# Altium integrated library NanoEEG_v2_MCU.IntLib: 41 symbols
Pins are listed as number, name and electrical type; pins without a type are passive.

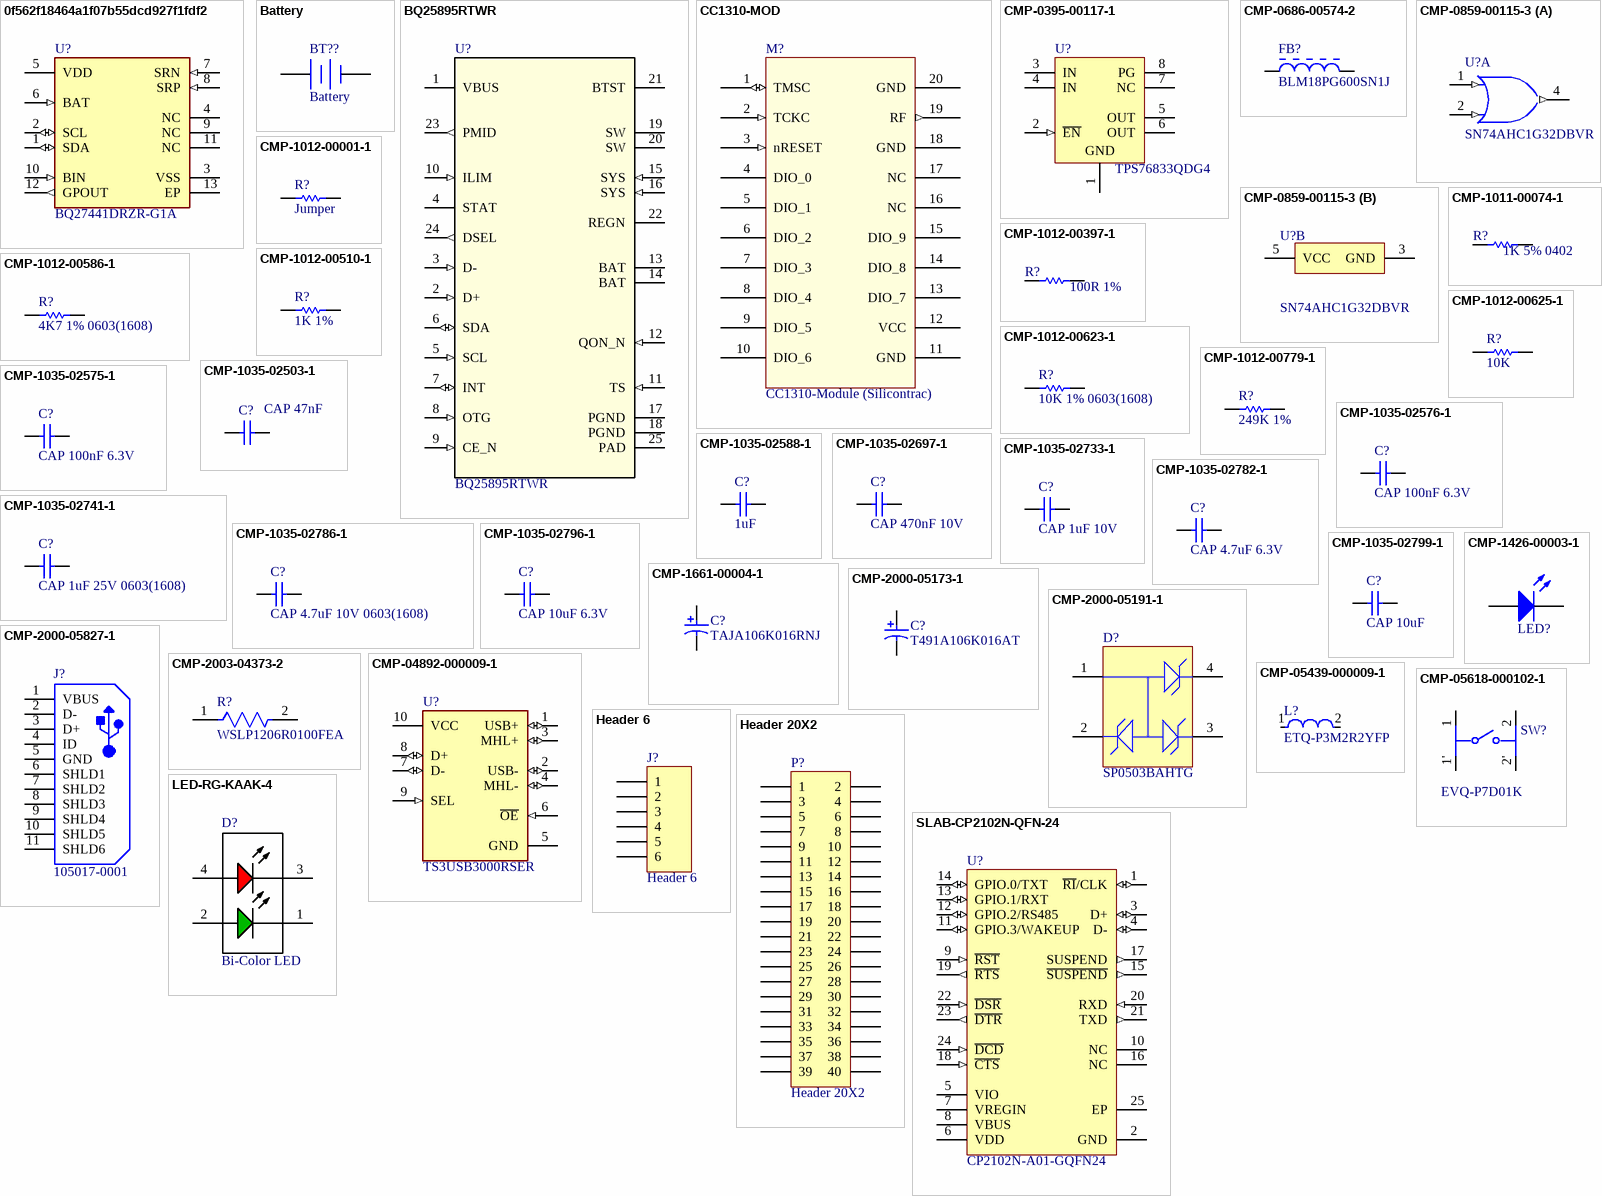
[diagram p0: symbols 0f562f18464a1f07b55dcd927f1fdf2 to SLAB-CP2102N-QFN-24]

## 0f562f18464a1f07b55dcd927f1fdf2
designator U?, comment BQ27441DRZR-G1A
IC BATT FUEL GAUGE LI-ION 12SON; Manufacturer: Texas Instruments; Number Of Cells: 1; Nominal Supply Current: 93uA; Max Supply Voltage: 4.5V; Standoff Height: 0mm; Min Supply Voltage: 2.45V; Output Voltage: 1.8V; Temperature Range High: +85°C; Temperature: -40°C to +85°C; Device Class L2: Power Management ICs; Device Class L1: Integrated Circuits (ICs); Lead Free: Yes; Height: 1mm; Package: DRZ0012A; Number Of Outputs: 1; ComponentLink2URL: http://www.ti.com/lit/gpn/bq27441-g1; Ambient Temperature Range High: +85°C; Category: IC; Manufacturer Part Number: BQ27441DRZR-G1A; Device Class L3: Battery Management; RoHS: TRUE; Octopart: https://octopart.com/bq27441drzr-g1a-texas+instruments-30555829; Ambient Temperature Range Low: -40°C; Automotive: No; Mouser Description: System-Side Impedance Track? Battery Fuel (Gas) Gauge 12-SON -40 to 85; Digikey Description: IC BATT FUEL GAUGE LI-ION 12SON; Temperature Range Low: -40°C; ComponentLink2Description: Datasheet
footprint FP-DRZ0012A-MFG_M
pins: 1 SDA (io), 2 SCL (io), 3 VSS (power), 4 NC, 5 VDD (power), 6 BAT (in), 7 SRN (in), 8 SRP (in), 9 NC, 10 BIN (in), 11 NC, 12 GPOUT (out), 13 EP (power)

## Battery
designator BT??
Multicell Battery; Published: 24-Mar-1999; LatestRevisionDate: 17-Jul-2002; LatestRevisionNote: Re-released for DXP Platform.; PackageReference: BAT-2; Publisher: Altium Limited; PackageDescription: Battery; 2 Leads
footprint PH2.0-WS-2P (长：8mm，宽：7.6mm，高：5.5mm)
pins: 1 +, 2 -

## BQ25895RTWR
designator U?
Imported; Alternate_PartNumber: BQ25895RTWT; Manufacturer: Texas Instruments; CompType: IC; PIN_COUNT: 25; Application_BuildNumber: *; PartNumber: BQ25895RTWR; PackageReference: RTW0024H; MountType: SMT; RefDes: RefDes; TYPE: TYPE; Value: Value
footprint RTW0024H
pins: 1 VBUS (power), 2 D+ (in), 3 D- (in), 4 STAT (oc), 5 SCL (in), 6 SDA (io), 7 INT (io), 8 OTG (in), 9 CE_N (in), 10 ILIM (in), 11 TS (in), 12 QON_N (in), 13 BAT (power), 14 BAT (power), 15 SYS (in), 16 SYS (in), 17 PGND (power), 18 PGND (power), 19 SW (power), 20 SW (power), 21 BTST (power), 22 REGN (power), 23 PMID (out), 24 DSEL (out), 25 PAD (power)

## CC1310-MOD
designator M?, comment CC1310-Module (Silicontrac)
footprint CC1310ZTR4-GC
pins: 1 TMSC (io), 2 TCKC (in), 3 nRESET (in), 4 DIO_0, 5 DIO_1, 6 DIO_2, 7 DIO_3, 8 DIO_4, 9 DIO_5, 10 DIO_6, 11 GND (power), 12 VCC (power), 13 DIO_7, 14 DIO_8, 15 DIO_9, 16 NC, 17 NC, 18 GND (power), 19 RF (out), 20 GND (power)

## CMP-0395-00117-1
designator U?, comment TPS76833QDG4
Single Output Fast Transient Response LDO, 1 A, Fixed 3.3 V Output, 2.7 to 10 V Input, with Low IQ, 8-pin SOIC (D), -40 to 125 degC, Green (RoHS & no Sb/Br); Manufacturer: Texas Instruments; Vin(Min)(V): 2.7; Fixed Output Options(V): 3.3; Iq(Typ)(mA): 0.08; Vdo(Typ)(mV): 350; Power Good: TRUE; Iout(Max)(A): 1; Accuracy(%): 2; SubFamily: Single Channel LDO; Vin(Max)(V): 10; PackageVersion: 4040047-3/M; PackageReference: D8; PartNumber: TPS76833QDG4; Code_JEDEC: MS-012; DatasheetVersion: SLVS211L; Vout Adj(Min)(V): 3.3; ComponentLink2Description: Datasheet; PackageDescription: 8-Pin Plastic Small Outline, Body 4.9 x 3.9 mm, Pitch 1.27 mm; ComponentLink3URL: http://www.ti.com/litv/pdf/msoi002j; Vout Adj(Max)(V): 3.3; ComponentLink1Description: Manufacturer URL; Mounting Technology: Surface Mount; ComponentLink3Description: Package Specification; ComponentLink2URL: http://www.ti.com/general/docs/lit/getliterature.tsp?genericPartNumber=TPS76833&fileType=pdf; ComponentLink1URL: http://www.ti.com/; Eco-Plan: Green (RoHS & no Sb/Br); Manufacturer Part Number: TPS76833QDG4
footprint TI-D8_M (SOIC, 8-Leads, Body 4.9x3.9mm, Pitch 1.27mm, IPC Low Density)
footprint TI-D8_L (SOIC, 8-Leads, Body 4.9x3.9mm, Pitch 1.27mm, IPC High Density)
footprint TI-D8_N (SOIC, 8-Leads, Body 4.9x3.9mm, Pitch 1.27mm, IPC Medium Density)
pins: 1 GND (power) "Ground", 2 ~{EN} (in) "Negative polarity enable (E\N\) input", 3 IN (power) "Input voltage", 4 IN (power) "Input voltage", 5 OUT (power) "Regulated output voltage", 6 OUT (power) "Regulated output voltage", 7 NC "No internal connection", 8 PG (hiz) "Open-drain power-good (PG) output."

## CMP-0686-00574-2
designator FB?, comment BLM18PG600SN1J
Chip Ferrite Bead for Power Lines, 60 Ohm, 500 mA, -55 to 125 degC, 1.6 x 0.8 x 0.95 mm SMD, Tape and Reel; Manufacturer: Murata; Impedance (at 100 MHz): 60 Ohm Typ.; Rated Current: 500 mA; DC Resistance: 0.10 Ohm Max.; ComponentLink2URL: http://www.murata.com/products/catalog/pdf/c31e.pdf; ComponentLink1Description: Manufacturer URL; Operating Temperature Range: -55 to 125 degC; DatasheetVersion: 08/2013; PackageDescription: 2-Pin Chip, Body 1.6 x 0.8 mm; PackageReference: BLM18_H950-2; ComponentLink2Description: Datasheet; PartNumber: BLM18PG600SN1J; Mounting Technology: Surface Mount; ComponentLink3URL: http://www.murata.com/products/catalog/pdf/c31e.pdf; ComponentLink3Description: Package Specification; Packing: Tape and Reel; ComponentLink1URL: http://www.murata.com/; Manufacturer Part Number: BLM18PG600SN1J
footprint MURA-BLM18PG_KG-CHIP-2_V2 (Chip Ferrite Bead, 2-Leads, Body 1.6x0.8mm, Height 0.95mm, Reflow, 0.5 to 1.5A Rated Current)
footprint MURA-BLM18PG_KG-CHIP-2_V1 (Chip Ferrite Bead, 2-Leads, Body 1.6x0.8mm, Height 0.95mm, Flow, 0.5 to 1.5A Rated Current)
pins: 1, 2

## CMP-0859-00115-3
designator U?, comment SN74AHC1G32DBVR
Single 2-Input Positive-OR Gate, DBV0005A, LARGE T&R; Manufacturer: Texas Instruments; Rating: Catalog; Sub-Family: OR Gate; 3-State Output: No; Logic: True; VCC(Min)(V): 2; Voltage(Nom)(V): 3.3,5; F @ Nom Voltage(Max)(Mhz): 75; VCC(Max)(V): 5.5; Output Type: CMOS; Output Drive (IOL/IOH)(Max)(mA): 50/-50; tpd @ Nom Voltage(Max)(ns): 13,8.5; Technology Family: AHC; Gate Type: OR; Bits(#): 1; ICC @ Nom Voltage(Max)(mA): 0.01; DatasheetVersion: SCLS317O; Generic Part Number: SN74AHC1G32; Input Type: CMOS; PackageReference: DBV0005A; Schmitt Trigger: No; Operating Temperature Range(C): -40 to 125; Manufacturer Part Number: SN74AHC1G32DBVR
footprint DBV0005A_L (SOT23, 5-Leads, Body 3.05x1.75mm, Pitch 0.95mm, IPC High Density)
footprint DBV0005A_N (SOT23, 5-Leads, Body 3.05x1.75mm, Pitch 0.95mm, IPC Medium Density)
footprint DBV0005A_M (SOT23, 5-Leads, Body 3.05x1.75mm, Pitch 0.95mm, IPC Low Density)
part A pins: 1 A (in) "Input A", 2 B (in) "Input B", 4 Y (out) "Output Y"
part B pins: 3 GND (power) "Ground Pin", 5 VCC (power) "Power Pin"

## CMP-1011-00074-1
designator R?, comment 1K 5% 0402
1K 0.063W 5% 0402 (1005 Metric)  SMD; Manufacturer: Vishay Dale; Manufacturer Part Number: CRCW04021K00JNED; Manufacturer Part Number: CRCW04021K00JNTE; Manufacturer Part Number: CRCW04021K00JNEE; Manufacturer Part Number: CRCW04021K00JNTD; Manufacturer: Bourns; Manufacturer Part Number: CR0402-JW-102GLF; Manufacturer: Panasonic; Manufacturer Part Number: ERJ-2GEJ102X; Manufacturer: Yageo; Manufacturer Part Number: RC0402JR-071KL; Value: 1000.00 Ohm; Case-EIA: 0402; Case-Metric: 1005; Tolerance: 5 %; Power: 0.063 W; Technology: SMT
footprint RESC0402(1005)_L (Chip Resistor, Body 1.0x0.5mm, IPC High Density)
footprint RESC0402(1005)_N (Chip Resistor, Body 1.0x0.5mm, IPC Medium Density)
footprint RESC0402(1005)_M (Chip Resistor, Body 1.0x0.5mm, IPC Low Density)
pins: 1, 2
1 alternate drawing of the same symbol

## CMP-1012-00001-1
designator R?, comment Jumper
Jumper 0603 (1608 Metric); Manufacturer: Vishay Dale; Manufacturer Part Number: CRCW06030000Z0EC; Manufacturer: Yageo; Manufacturer Part Number: RC0603JR-070RL; Manufacturer: Vishay; Manufacturer Part Number: CRCW0603-0000Z0EA; Manufacturer Part Number: CRCW06030000Z0TA; Manufacturer: Bourns; Manufacturer Part Number: CR0603-J/-000ELF; Manufacturer Part Number: CRCW06030000Z0EB; Manufacturer: Panasonic; Manufacturer Part Number: ERJ-3GEY0R00V; Case-Metric: 1608; Value: 0.00 Ohm; Power: None; Case-EIA: 0603; Technology: SMT; Tolerance: None
footprint RESC0603(1608)_N (Chip Resistor, Body 1.6x0.8mm, IPC Medium Density)
footprint RESC0603(1608)_L (Chip Resistor, Body 1.6x0.8mm, IPC High Density)
footprint RESC0603(1608)_M (Chip Resistor, Body 1.6x0.8mm, IPC Low Density)
pins: 1, 2
1 alternate drawing of the same symbol

## CMP-1012-00397-1
designator R?, comment 100R 1%
100R 0.1W 1% 0603 (1608 Metric)  SMD; Manufacturer: Vishay Dale; Manufacturer Part Number: CRCW0603100RFKTB; Manufacturer Part Number: CRCW0603100RFKTA; Manufacturer: Bourns; Manufacturer Part Number: CR0603-FX-1000ELF; Manufacturer Part Number: CRCW0603100RFKTC; Manufacturer Part Number: CRCW0603100RFKEC; Manufacturer Part Number: CRCW0603100RFKEA; Manufacturer Part Number: CRCW0603100RFKEB; Manufacturer: Panasonic; Manufacturer Part Number: ERJ3EKF1000V; Manufacturer: Yageo; Manufacturer Part Number: RC0603FR-07100RL; Value: 100.00 Ohm; Case-EIA: 0603; Case-Metric: 1608; Technology: SMT; Tolerance: 1 %; Power: 0.1 W
footprint RESC0603(1608)_M (Chip Resistor, Body 1.6x0.8mm, IPC Low Density)
footprint RESC0603(1608)_L (Chip Resistor, Body 1.6x0.8mm, IPC High Density)
footprint RESC0603(1608)_N (Chip Resistor, Body 1.6x0.8mm, IPC Medium Density)
pins: 1, 2
1 alternate drawing of the same symbol

## CMP-1012-00510-1
designator R?, comment 1K 1%
1K 0.1W 1% 0603 (1608 Metric)  SMD; Manufacturer: Vishay Dale; Manufacturer Part Number: CRCW06031K00FKEB; Manufacturer Part Number: CRCW06031K00FKTA; Manufacturer: Yageo; Manufacturer Part Number: RC0603FR-071KL; Manufacturer Part Number: CRCW06031K00FKEC; Manufacturer Part Number: CRCW06031K00FKTB; Manufacturer: Bourns; Manufacturer Part Number: CR0603-FX-1001ELF; Manufacturer: Panasonic; Manufacturer Part Number: ERJ3EKF1001V; Manufacturer Part Number: CRCW06031K00FKEA; Case-Metric: 1608; Case-EIA: 0603; Value: 1000.00 Ohm; Technology: SMT; Tolerance: 1 %; Power: 0.1 W
footprint RESC0603(1608)_M (Chip Resistor, Body 1.6x0.8mm, IPC Low Density)
footprint RESC0603(1608)_N (Chip Resistor, Body 1.6x0.8mm, IPC Medium Density)
footprint RESC0603(1608)_L (Chip Resistor, Body 1.6x0.8mm, IPC High Density)
pins: 1, 2
1 alternate drawing of the same symbol

## CMP-1012-00586-1
designator R?, comment 4K7 1% 0603(1608)
4K7 0.1W 1% 0603 (1608 Metric)  SMD; Manufacturer: Panasonic; Manufacturer Part Number: ERJ-3EKF4701V; Manufacturer: Vishay Dale; Manufacturer Part Number: CRCW06034K70FKTB; Manufacturer: Bourns; Manufacturer Part Number: CR0603-FX-4701ELF; Manufacturer: Yageo; Manufacturer Part Number: RC0603FR-074K7L; Manufacturer Part Number: CRCW06034K70FKTC; Manufacturer Part Number: CRCW06034K70FKEC; Manufacturer: Vishay; Manufacturer Part Number: CRCW06034K70FKEA; Manufacturer Part Number: CRCW06034K70FKTA; Manufacturer Part Number: CRCW06034K70FKEB; Case-EIA: 0603; Case-Metric: 1608; Value: 4700.00 Ohm; Power: 0.1 W; Tolerance: 1 %; Technology: SMT
footprint RESC0603(1608)_N (Chip Resistor, Body 1.6x0.8mm, IPC Medium Density)
footprint RESC0603(1608)_L (Chip Resistor, Body 1.6x0.8mm, IPC High Density)
footprint RESC0603(1608)_M (Chip Resistor, Body 1.6x0.8mm, IPC Low Density)
pins: 1, 2
1 alternate drawing of the same symbol

## CMP-1012-00623-1
designator R?, comment 10K 1% 0603(1608)
10K 0.1W 1% 0603 (1608 Metric)  SMD; Manufacturer: Panasonic; Manufacturer Part Number: ERJ-3EKF1002V; Manufacturer: Vishay Dale; Manufacturer Part Number: CRCW060310K0FKTC; Manufacturer: Vishay; Manufacturer Part Number: CRCW060310K0FKEA; Manufacturer Part Number: CRCW060310K0FKTA; Manufacturer Part Number: CRCW060310K0FKEC; Manufacturer: Yageo; Manufacturer Part Number: RC0603FR-0710KL; Manufacturer Part Number: CRCW060310K0FKEB; Manufacturer: Bourns; Manufacturer Part Number: CR0603-FX-1002ELF; Manufacturer Part Number: CRCW060310K0FKTB; Value: 10000.00 Ohm; Case-EIA: 0603; Case-Metric: 1608; Power: 0.1 W; Tolerance: 1 %; Technology: SMT
footprint RESC0603(1608)_N (Chip Resistor, Body 1.6x0.8mm, IPC Medium Density)
footprint RESC0603(1608)_L (Chip Resistor, Body 1.6x0.8mm, IPC High Density)
footprint RESC0603(1608)_M (Chip Resistor, Body 1.6x0.8mm, IPC Low Density)
pins: 1, 2
1 alternate drawing of the same symbol

## CMP-1012-00625-1
designator R?, comment 10K
10K5 0.1W 1% 0603 (1608 Metric)  SMD; Manufacturer: Bourns; Manufacturer Part Number: CR0603-FX-1052ELF; Manufacturer: Vishay; Manufacturer Part Number: CRCW0603-10K5FKEA; Manufacturer: Yageo; Manufacturer Part Number: RC0603FR-0710K5L; Manufacturer: Vishay Dale; Manufacturer Part Number: CRCW060310K5FKEB; Manufacturer Part Number: CRCW060310K5FKTA; Manufacturer: Panasonic; Manufacturer Part Number: ERJ-3EKF1052V; Case-EIA: 0603; Case-Metric: 1608; Value: 10500.00 Ohm; Power: 0.1 W; Technology: SMT; Tolerance: 1 %
footprint RESC0603(1608)_N (Chip Resistor, Body 1.6x0.8mm, IPC Medium Density)
footprint RESC0603(1608)_L (Chip Resistor, Body 1.6x0.8mm, IPC High Density)
footprint RESC0603(1608)_M (Chip Resistor, Body 1.6x0.8mm, IPC Low Density)
pins: 1, 2
1 alternate drawing of the same symbol

## CMP-1012-00779-1
designator R?, comment 249K 1%
249K 0.1W 1% 0603 (1608 Metric)  SMD; Manufacturer: Vishay Dale; Manufacturer Part Number: CRCW0603249KFKTA; Manufacturer: Bourns; Manufacturer Part Number: CR0603-FX-2493ELF; Manufacturer Part Number: CRCW0603249KFKEB; Manufacturer: Yageo; Manufacturer Part Number: RC0603FR-07249KL; Manufacturer: Panasonic; Manufacturer Part Number: ERJ-3EKF2493V; Manufacturer Part Number: CRCW0603249KFKTC; Manufacturer: Vishay; Manufacturer Part Number: CRCW0603249KFKEA; Manufacturer Part Number: CRCW0603249KFKEC; Case-Metric: 1608; Case-EIA: 0603; Value: 249000.00 Ohm; Technology: SMT; Power: 0.1 W; Tolerance: 1 %
footprint RESC0603(1608)_L (Chip Resistor, Body 1.6x0.8mm, IPC High Density)
footprint RESC0603(1608)_N (Chip Resistor, Body 1.6x0.8mm, IPC Medium Density)
footprint RESC0603(1608)_M (Chip Resistor, Body 1.6x0.8mm, IPC Low Density)
pins: 1, 2
1 alternate drawing of the same symbol

## CMP-1035-02503-1
designator C?, comment CAP 47nF
CAP 47nF 16V ±10% 0603 (1608 Metric) Thickness 1mm SMD; Manufacturer: KEMET; Manufacturer Part Number: C0603C473K4RAC; Manufacturer Part Number: C0603C473K4RACTU; Manufacturer: Vishay Vitramon; Manufacturer Part Number: VJ0603Y473KXJAC; Manufacturer Part Number: VJ0603Y473KXJPW1BC; Manufacturer: TDK; Manufacturer Part Number: C1608X7R1C473K; Manufacturer: Kyocera AVX; Manufacturer Part Number: 0603YC473KAT2A; Manufacturer Part Number: 0603YC473KAT4A; Manufacturer Part Number: C0603C473K4RACTM; Manufacturer Part Number: VJ0603Y473KXJCW1BC; Manufacturer: Yageo; Manufacturer Part Number: CC0603KRX7R7BB473; Manufacturer Part Number: VJ0603Y473KXJAP; Tolerance: Â±10%; Case-EIA: 0603; Case-Metric: 1608; Technology: SMT; Rated Voltage: 16 V; Max Thickness: 1 mm; Value: 47nF
footprint CAPC0603(1608)100_L (Chip Capacitor, Body 1.6x0.8mm, Height 1.0mm, IPC High Density)
footprint CAPC0603(1608)100_M (Chip Capacitor, Body 1.6x0.8mm, Height 1.0mm, IPC Low Density)
footprint CAPC0603(1608)100_N (Chip Capacitor, Body 1.6x0.8mm, Height 1.0mm, IPC Medium Density)
pins: 1, 2
1 alternate drawing of the same symbol

## CMP-1035-02575-1
designator C?, comment CAP 100nF 6.3V
CAP 100nF 6.3V ±5% 0603 (1608 Metric) Thickness 1mm SMD; Manufacturer: KEMET; Manufacturer Part Number: C0603C104J9RACTM; Manufacturer Part Number: C0603C104J9RAC; Manufacturer Part Number: C0603C104J9RACTU; Tolerance: Â±5%; Case-Metric: 1608; Case-EIA: 0603; Technology: SMT; Rated Voltage: 6.3 V; Max Thickness: 1 mm; Value: 100nF
footprint CAPC0603(1608)100_M (Chip Capacitor, Body 1.6x0.8mm, Height 1.0mm, IPC Low Density)
footprint CAPC0603(1608)100_L (Chip Capacitor, Body 1.6x0.8mm, Height 1.0mm, IPC High Density)
footprint CAPC0603(1608)100_N (Chip Capacitor, Body 1.6x0.8mm, Height 1.0mm, IPC Medium Density)
pins: 1, 2
1 alternate drawing of the same symbol

## CMP-1035-02576-1
designator C?, comment CAP 100nF 6.3V
CAP 100nF 6.3V ±10% 0603 (1608 Metric) Thickness 1mm SMD; Manufacturer: KEMET; Manufacturer Part Number: C0603C104K9RAC; Manufacturer Part Number: C0603C104K9RACTU; Manufacturer Part Number: C0603C104K9RACTM; Tolerance: Â±10%; Case-Metric: 1608; Case-EIA: 0603; Max Thickness: 1 mm; Value: 100nF; Rated Voltage: 6.3 V; Technology: SMT
footprint CAPC0603(1608)100_M (Chip Capacitor, Body 1.6x0.8mm, Height 1.0mm, IPC Low Density)
footprint CAPC0603(1608)100_N (Chip Capacitor, Body 1.6x0.8mm, Height 1.0mm, IPC Medium Density)
footprint CAPC0603(1608)100_L (Chip Capacitor, Body 1.6x0.8mm, Height 1.0mm, IPC High Density)
pins: 1, 2
1 alternate drawing of the same symbol

## CMP-1035-02588-1
designator C?, comment 1uF
CAP 100nF 25V ±10% 0603 (1608 Metric) Thickness 1mm SMD; Manufacturer: Vishay Vitramon; Manufacturer Part Number: VJ0603Y104KNXAO; Manufacturer: Yageo; Manufacturer Part Number: CC0603KPX7R8BB104; Manufacturer Part Number: VJ0603Y104KXXAP; Manufacturer: Murata; Manufacturer Part Number: GRM188R71E104KA01D; Manufacturer: TDK; Manufacturer Part Number: C1608X7R1E104K; Manufacturer: Kyocera AVX; Manufacturer Part Number: 06033C104KAT4A; Manufacturer Part Number: VJ0603Y104KXXCW1BC; Manufacturer Part Number: 06033C104KAT2A; Manufacturer Part Number: CC0603KRX7R8BB104; Manufacturer: KEMET; Manufacturer Part Number: C0603C104K3RACTU; Manufacturer Part Number: 06033C104KAT7A; Manufacturer Part Number: 06033D104KAT2A; Manufacturer Part Number: C0603C104K3RACTM; Manufacturer Part Number: 06033D104KAT4A; Manufacturer: Vishay; Manufacturer Part Number: VJ0603Y104KXXPW1BC; Manufacturer Part Number: C0603C104K3RAC; Manufacturer Part Number: VJ0603Y104KXXAC; Case-Metric: 1608; Case-EIA: 0603; Tolerance: Â±10%; Max Thickness: 1 mm; Technology: SMT; Rated Voltage: 25 V; Value: 100nF
footprint CAPC0603(1608)100_M (Chip Capacitor, Body 1.6x0.8mm, Height 1.0mm, IPC Low Density)
footprint CAPC0603(1608)100_L (Chip Capacitor, Body 1.6x0.8mm, Height 1.0mm, IPC High Density)
footprint CAPC0603(1608)100_N (Chip Capacitor, Body 1.6x0.8mm, Height 1.0mm, IPC Medium Density)
pins: 1, 2
1 alternate drawing of the same symbol

## CMP-1035-02697-1
designator C?, comment CAP 470nF 10V
CAP 470nF 10V ±20% 0603 (1608 Metric) Thickness 1mm SMD; Manufacturer: KEMET; Manufacturer Part Number: C0603C474M8RACTU; Manufacturer: Vishay Vitramon; Manufacturer Part Number: VJ0603V474MXQPW1BC; Manufacturer Part Number: VJ0603V474MXQCW1BC; Manufacturer Part Number: C0603C474M8PAC; Manufacturer Part Number: C0603C474M8PACTU; Manufacturer Part Number: C0603C474M8RAC; Manufacturer: TDK; Manufacturer Part Number: C1608X5R1A474M; Manufacturer Part Number: C1608X7R1A474M; Case-EIA: 0603; Case-Metric: 1608; Tolerance: Â±20%; Max Thickness: 1 mm; Rated Voltage: 10 V; Technology: SMT; Value: 470nF
footprint CAPC0603(1608)100_M (Chip Capacitor, Body 1.6x0.8mm, Height 1.0mm, IPC Low Density)
footprint CAPC0603(1608)100_L (Chip Capacitor, Body 1.6x0.8mm, Height 1.0mm, IPC High Density)
footprint CAPC0603(1608)100_N (Chip Capacitor, Body 1.6x0.8mm, Height 1.0mm, IPC Medium Density)
pins: 1, 2
1 alternate drawing of the same symbol

## CMP-1035-02733-1
designator C?, comment CAP 1uF 10V
CAP 1uF 10V ±10% 0603 (1608 Metric) Thickness 1mm SMD; Manufacturer: KEMET; Manufacturer Part Number: C0603C105K8RACTU; Manufacturer: Murata; Manufacturer Part Number: GRM188R71A105KA61D; Manufacturer: Vishay; Manufacturer Part Number: VJ0603Y105KXQPW1BC; Manufacturer: Kyocera AVX; Manufacturer Part Number: 0603ZD105KAT2A; Manufacturer Part Number: C0603C105K8PAC; Manufacturer Part Number: VJ0603Y105KXQCW1BC; Manufacturer Part Number: 0603ZC105KAT2A; Manufacturer Part Number: VJ0603G105KXQPW1BC; Manufacturer Part Number: C0603C105K8PACTU; Manufacturer Part Number: 0603ZD105KAT4A; Manufacturer Part Number: 0603ZC105KAT4A; Manufacturer: TDK; Manufacturer Part Number: C1608X5R1A105K; Manufacturer Part Number: C0603C105K8RAC; Manufacturer Part Number: VJ0603G105KXQCW1BC; Manufacturer: Yageo; Manufacturer Part Number: CC0603KRX5R6BB105; Manufacturer Part Number: C1608X7R1A105K; Tolerance: Â±10%; Case-EIA: 0603; Case-Metric: 1608; Rated Voltage: 10 V; Max Thickness: 1 mm; Value: 1uF; Technology: SMT
footprint CAPC0603(1608)100_M (Chip Capacitor, Body 1.6x0.8mm, Height 1.0mm, IPC Low Density)
footprint CAPC0603(1608)100_N (Chip Capacitor, Body 1.6x0.8mm, Height 1.0mm, IPC Medium Density)
footprint CAPC0603(1608)100_L (Chip Capacitor, Body 1.6x0.8mm, Height 1.0mm, IPC High Density)
pins: 1, 2
1 alternate drawing of the same symbol

## CMP-1035-02741-1
designator C?, comment CAP 1uF 25V 0603(1608)
CAP 1uF 25V ±20% 0603 (1608 Metric) Thickness 1mm SMD; Manufacturer: TDK; Manufacturer Part Number: C1608X7R1E105M; Manufacturer Part Number: C1608X6S1E105M; Manufacturer Part Number: C1608X5R1E105M; Manufacturer: KEMET; Manufacturer Part Number: C0603C105M3PACTU; Manufacturer Part Number: C0603C105M3PAC; Tolerance: Â±20%; Case-EIA: 0603; Case-Metric: 1608; Max Thickness: 1 mm; Technology: SMT; Rated Voltage: 25 V; Value: 1uF
footprint CAPC0603(1608)100_M (Chip Capacitor, Body 1.6x0.8mm, Height 1.0mm, IPC Low Density)
footprint CAPC0603(1608)100_N (Chip Capacitor, Body 1.6x0.8mm, Height 1.0mm, IPC Medium Density)
footprint CAPC0603(1608)100_L (Chip Capacitor, Body 1.6x0.8mm, Height 1.0mm, IPC High Density)
pins: 1, 2
1 alternate drawing of the same symbol

## CMP-1035-02782-1
designator C?, comment CAP 4.7uF 6.3V
CAP 4.7uF 6.3V ±20% 0603 (1608 Metric) Thickness 1mm SMD; Manufacturer: Yageo; Manufacturer Part Number: CC0603MRX5R5BB475; Manufacturer: KEMET; Manufacturer Part Number: C0603C475M9PAC; Manufacturer Part Number: C0603C475M9PACTU; Manufacturer: TDK; Manufacturer Part Number: C1608X6S0J475M; Manufacturer: Kyocera AVX; Manufacturer Part Number: 06036D475MAT4A; Manufacturer Part Number: C1608X5R0J475M/0.50; Manufacturer Part Number: C1608X5R0J475M/0.80; Manufacturer Part Number: 06036D475MAT2A; Case-EIA: 0603; Tolerance: Â±20%; Case-Metric: 1608; Technology: SMT; Rated Voltage: 6.3 V; Max Thickness: 1 mm; Value: 4.7uF
footprint CAPC0603(1608)100_M (Chip Capacitor, Body 1.6x0.8mm, Height 1.0mm, IPC Low Density)
footprint CAPC0603(1608)100_L (Chip Capacitor, Body 1.6x0.8mm, Height 1.0mm, IPC High Density)
footprint CAPC0603(1608)100_N (Chip Capacitor, Body 1.6x0.8mm, Height 1.0mm, IPC Medium Density)
pins: 1, 2
1 alternate drawing of the same symbol

## CMP-1035-02786-1
designator C?, comment CAP 4.7uF 10V 0603(1608)
CAP 4.7uF 10V ±20% 0603 (1608 Metric) Thickness 0.55mm SMD; Manufacturer: TDK; Manufacturer Part Number: C1608X5R1A475M/0.50; Tolerance: Â±20%; Case-EIA: 0603; Case-Metric: 1608; Technology: SMT; Max Thickness: 0.55 mm; Rated Voltage: 10 V; Value: 4.7uF
footprint CAPC0603(1608)55_M (Chip Capacitor, Body 1.6x0.8mm, Height 0.55mm, IPC Low Density)
footprint CAPC0603(1608)55_N (Chip Capacitor, Body 1.6x0.8mm, Height 0.55mm, IPC Medium Density)
footprint CAPC0603(1608)55_L (Chip Capacitor, Body 1.6x0.8mm, Height 0.55mm, IPC High Density)
pins: 1, 2
1 alternate drawing of the same symbol

## CMP-1035-02796-1
designator C?, comment CAP 10uF 6.3V
CAP 10uF 6.3V ±10% 0603 (1608 Metric) Thickness 1mm SMD; Manufacturer: TDK; Manufacturer Part Number: C1608X5R0J106K; Manufacturer: KEMET; Manufacturer Part Number: C0603C106K9PAC; Manufacturer Part Number: C0603C106K9PACTU; Manufacturer: Kyocera AVX; Manufacturer Part Number: 06036D106KAT2A; Manufacturer: Yageo; Manufacturer Part Number: CC0603KRX5R5BB106; Case-EIA: 0603; Tolerance: Â±10%; Case-Metric: 1608; Value: 10uF; Technology: SMT; Rated Voltage: 6.3 V; Max Thickness: 1 mm
footprint CAPC0603(1608)100_M (Chip Capacitor, Body 1.6x0.8mm, Height 1.0mm, IPC Low Density)
footprint CAPC0603(1608)100_N (Chip Capacitor, Body 1.6x0.8mm, Height 1.0mm, IPC Medium Density)
footprint CAPC0603(1608)100_L (Chip Capacitor, Body 1.6x0.8mm, Height 1.0mm, IPC High Density)
pins: 1, 2
1 alternate drawing of the same symbol

## CMP-1035-02799-1
designator C?, comment CAP 10uF
CAP 10uF 10V ±10% 0603 (1608 Metric) Thickness 1mm SMD; Manufacturer: TDK; Manufacturer Part Number: C1608X5R1A106K; Tolerance: Â±10%; Case-Metric: 1608; Case-EIA: 0603; Max Thickness: 1 mm; Technology: SMT; Rated Voltage: 10 V; Value: 10uF
footprint CAPC0603(1608)100_N (Chip Capacitor, Body 1.6x0.8mm, Height 1.0mm, IPC Medium Density)
footprint CAPC0603(1608)100_M (Chip Capacitor, Body 1.6x0.8mm, Height 1.0mm, IPC Low Density)
footprint CAPC0603(1608)100_L (Chip Capacitor, Body 1.6x0.8mm, Height 1.0mm, IPC High Density)
pins: 1, 2
1 alternate drawing of the same symbol

## CMP-1426-00003-1
designator LED?, comment 150060BS75000  (value not drawn)
SMD mono-color Chip LED, WL-SMCW, Blue; Manufacturer: Wuerth Elektronik; Manufacturer: Wurth Electronics; Color: Blue; ComponentLink2Description: Datasheet; ComponentLink2URL: http://katalog.we-online.com/led/datasheet/150060BS75000.pdf; ComponentLink1URL: http://www.we-online.com; PackageReference: 0603_A; PartNumber: 150060BS75000; ComponentLink1Description: Manufacturer URL; Manufacturer Part Number: 150060BS75000
footprint 0603_A (Chip LED, 2-Leads, Body 1.6x0.8mm, IPC Medium Density)
pins: 1 K, 2 A

## CMP-1661-00004-1
designator C?, comment TAJA106K016RNJ
Standard Tantalum, 10 uF, +/- 10%, 16 V, -55 to 125 degC, 2-Pin SMD (1206), RoHS, Tape and Reel; Manufacturer: Kyocera AVX; Frequency: 300 MHz; Vce Max: 500 mV; hFE Min: 60; Elements: 2; Case\Package: SOT-26; Max Power Dissipation: 300 mW; Min Operating Temperature: -55 degC; Width: 1.7 mm; ComponentLink2URL: http://datasheets.avx.com/TAJ.pdf; PackageDescription: 2-Pin Surface Mount Device, Body 3.2 x 1.65 mm; RoHSCompliant: true; ComponentLink2Description: Datasheet; Package Quantity: 3000; Max Operating Temperature: 150 degC; Length: 3.1 mm; Mount: Surface Mount; Packaging: Tape and Reel; ComponentLink1URL: http://www.avx.com/; ComponentLink1Description: Manufacturer URL; DatasheetVersion: Feb-16; ComponentLink3URL: http://www.avx.com/download/software/literature/AVX-Footprint-Library.pdf; ComponentLink3Description: Package Specification; Height: 1.3 mm; PackageReference: CAPMP3217X18-T; REACH SVHC: No SVHC; Pins: 6; Radiation Hardening: No; Manufacturer Part Number: TAJA106K016RNJ
footprint CAPMP3217X18-T_V (Molded Capacitor, 2-Leads, Body 3.40x1.8mm)
pins: 1, 2

## CMP-2000-05173-1
designator C?, comment T491A106K016AT
Capacitor, Tantalum, 10 uF, +/- 10%, 16 V, -55 to 125 degC, 2-Pin SMD (1206), RoHS, Tape and Reel; Manufacturer: Kemet; Insulation: NotRequired; Voltage: 16VDC; Capacitance: 10uF; Product Height (mm): 1.6mm; Polarity: Polar; Lead Spacing (nom): NotRequiredmm; Product Length (mm): 3.2mm; Case Style: Molded; DCL: 1.6uA; ESR: 7ohm; DF: 8%; Mounting Style: SurfaceMount; Manufacturer URL: http://www.kemet.com/; Datasheet Version: Apr-14; Package Description: 2-Pin Surface Mount Device, Body 3.2 x 1.6 mm; Operating Temp Range: -55Cto125C; Package Reference: 1206; Wire Form: NotRequired; Datasheet URL: http://www.farnell.com/datasheets/1824869.pdf; Tolerance (+ or -): 10%; Failure Rate: NotRequired; Length W/Weld: NotRequiredmm; Package / Case: 3216-18; Seated Plane Height: NotRequiredmm; Product Diameter (mm): NotRequiredmm; Construction: SMTChip; Seal: NotRequired; Case Code: A; Product Depth (mm): 1.6mm; Packaging: TapeandReel; Manufacturer: KEMET; Manufacturer Part Number: T491A106K016AT
footprint KEMT-A-3216-18-2_M (Molded TAN Capacitor, 2-Leads, Body 3.4x1.8mm, IPC Low Density)
footprint KEMT-A-3216-18-2_N (Molded TAN Capacitor, 2-Leads, Body 3.4x1.8mm, IPC Medium Density)
footprint KEMT-A-3216-18-2_L (Molded TAN Capacitor, 2-Leads, Body 3.4x1.8mm, IPC High Density)
pins: 1, 2

## CMP-2000-05191-1
designator D?, comment SP0503BAHTG
TVS Diode Array, 30 pF, 30 KV, -40 to 85 degC, 4-Pin SOT143, RoHS, Tape and Reel; Manufacturer: Littelfuse; Direction Type: Uni-Directional; Product Height (mm): 1.05mm; Leakage Current (Max): 0.1uA; Clamping Voltage (Max): 8V; Reverse Stand-off Voltage: 5.5(Min)V; Configuration: Triple; Working Voltage: 5.5V; Product Length (mm): 3.04mm; Working Voltage (Max): 5.5V(Min); Capacitance Value: 30pF; Rad Hardened: No; Number of Elements: 3; Product Depth (mm): 1.4mm; Operating Temperature Max Deg. C: 85C; Suppressor Type: TVS; Operating Temperature Min Deg. C: -40C; Operating Temp Range: -40Cto85C; Mounting: SurfaceMount; Package / Case: SOT-143; Datasheet Version: Dec-13; Package Type: SOT-143; Packaging: TapeandReel; Pin Count: 3+Tab; Operating Temperature Classification: Industrial; Datasheet URL: https://datasheet.ciiva.com/15143/getdatasheetpartid-116020-15143550.pdf; Manufacturer URL: http://www.littelfuse.com/; Leakage Current: 0.1uA; Mounting Style: SurfaceMount; Clamping Voltage: 8V; Polarity: Uni-Directional; Manufacturer Part Number: SP0503BAHTG
footprint LFUS-SOT143-4_V (SOT143, 4-Leads, Body 3.04x1.4mm, Pitch 1.90mm)
pins: 1, 2, 3, 4

## CMP-2000-05827-1
designator J?, comment 105017-0001
Micro-USB B Receptacle, Right Angle, Bottom Mount, Surface Mount, with Solder Tabs, -30 to 85 degC, 5-Pin USB, RoHS, Tape and Reel; Manufacturer: Molex; Featured Product: Micro-USBConnectorsUSBConnectors; Other Names: WM1399DKR; Package Version: Rev. F, 12/2012; Number of Contacts: 5; Connector Type: USB-microB; Catalog Drawings: 1050170001; 3D Model: 105017-0001.stp; Mating Products: WM17145-ND-CABLEMICROUSBBTOSTDA1.0MWM17147-ND-CABLEMICROUSBBTOSTDA2.0MWM17146-ND-CABLEMICROUSBBTOSTDA1.5M; PCN Assembly/Origin: ResinSupplier21/Oct/2015; Voltage - Max: 30V; Online Catalog: Molex-MicroUSB; Manufacturer URL: http://www.molex.com/; Package Description: 5-Leads USB, Micro B, Body 7.5 x 5 mm, Pitch 0.65 mm; Datasheet URL: http://www.molex.com/elqNow/elqRedir.htm?ref=http://www.molex.com/webdocs/datasheets/pdf/en-us/1050170001_IO_CONNECTORS.pdf; Ingress Protection: -; Datasheet Version: 03/2016; Mounting Type: BoardCutout,SurfaceMount,RightAngle; Circuits: 5; Standard Package: 1; Package Reference: MICRO-B; Package URL: http://www.molex.com/pdm_docs/sd/1050170001_sd.pdf; Category: Connectors,Interconnects; Series: -; RoHS Information: 1050170001CertofCompliance; Features: Shielded,SolderRetention; Family: USB,DVI,HDMIConnectors; Specifications: -; Gender: Receptacle; Packaging: Digi-Reel®; Mounting Technology: SurfaceMount; Manufacturer Part Number: 1050170001
footprint USB-MICRO-B_V (USB, MICRO B, Body 7.491x4.695 mm, Pitch 0.65 mm)
pins: 1 VBUS, 2 D-, 3 D+, 4 ID, 5 GND, 6 SHLD1, 7 SHLD2, 8 SHLD3, 9 SHLD4, 10 SHLD5, 11 SHLD6

## CMP-2003-04373-2
designator R?, comment WSLP1206R0100FEA
RES 0.01 OHM 1% 1W 1206; Manufacturer: Vishay Dale; Temperature Coefficient: 75ppm/°C; Resistance: 10mR; Features: Moisture Resistant; Case/Package: 1206; Military Standard: Not; Case Code (Imperial): 1206; Power Rating: 1W; Number of Terminations: 2; Lead Free: Lead Free; Number of Pins: 2; Min Operating Temperature: -65°C; Weight: 0.000571oz; Radiation Hardening: No; Series: WSLP; Length: 3.2mm; Termination: SMD/SMT; Mount: Surface Mount; Size Code: 1206; Height: 0.035inch; Case Code (Metric): 3216; Resistance Tolerance: 1%; Contact Plating: Tin; Width: 0.063inch; Construction: Rectangular; Packaging: Tape and Reel; Package Quantity: 1; RoHS Compliant: Yes; Depth: 1.6mm; Tolerance: 1%; Max Operating Temperature: 170°C; Max Power Dissipation: 1W; Resistor Type: Metal Strip; Manufacturer Part Number: WSLP1206R0100FEA
footprint FP-WSLP1206-FP_1_65x1_93x-MFG
footprint FP-WSLP1206-FP_1_65x1_93x-IPC_C
footprint FP-WSLP1206-FP_1_65x1_93x-IPC_B
footprint FP-WSLP1206-FP_1_65x1_93x-IPC_A
pins: 1, 2

## CMP-04892-000009-1
designator U?, comment TS3USB3000RSER
IC USB SW/MHL DPDT 10UQFN; Manufacturer: Texas Instruments; On State Resistance: 5.7Ω; Min Supply Voltage: 2.3V; Number Of Circuits: 2; -3Db Bandwith: 6.1GHz; Standoff Height: 0mm; Max Supply Voltage: 4.8V; Nominal Supply Current: 30uA; Temperature Range High: +85°C; Ambient Temperature Range High: +85°C; Package: UQFN10; Category: IC; Temperature: -40°C to +85°C; Device Class L2: Interface ICs; Height: 0.6mm; Lead Free: Yes; RoHS: TRUE; Ipc Land Pattern Name: QFN50P150X200X55-10; Digikey Description: IC USB SW/MHL DPDT 10UQFN; Octopart: https://octopart.com/ts3usb3000rser-texas+instruments-25746917; Automotive: No; Device Class L1: Integrated Circuits (ICs); Ambient Temperature Range Low: -40°C; Mouser Description: DPDT USB 2.0 High-Speed and Mobile High-Definition Link (MHL) (6.1GHz) Switch 10-UQFN -40 to 85; Temperature Range Low: -40°C; Device Class L3: Analog Switches; ComponentLink2URL: http://www.ti.com/lit/ds/symlink/ts3usb3000.pdf; Manufacturer Part Number: TS3USB3000RSER; ComponentLink2Description: Datasheet; Throw Configuration: DPDT; Interface: USB
footprint FP-TS3USB3000RSER-MFG
pins: 1 USB+ (io), 2 USB- (io), 3 MHL+ (io), 4 MHL- (io), 5 GND (power), 6 ~{OE} (in), 7 D- (io), 8 D+ (io), 9 SEL (in), 10 VCC (power)

## CMP-05439-000009-1
designator L?, comment ETQ-P3M2R2YFP
FIXED IND 2.2UH 5.8A 24.8 MOHM; Manufacturer: Panasonic; Manufacturer Part Number: ETQP3M2R2YFP; Tolerance: 20%; Automotive Grade: Grade 0; Standoff Height: 0.05mm; Series Resistance: 24.8mΩ; Core Material: Metal Composite; Test Frequency: 100kHz; Saturation Current: 10.9A; Rms Current: 4.8A; Shielding: true; Temperature Range Low: -40°C; Category: Ind; Temperature: -40°C to +150°C; Lead Free: Yes; Temperature Range High: +150°C; Height: 3mm; Manufacturer Part Number: ETQ-P3M2R2YFP; Value: 2.2uH; Device Class L3: Fixed Inductors; Automotive: Yes; Inductance: 2.2uH; Device Class L2: Inductors; ComponentLink2URL: https://industrial.panasonic.com/cdbs/www-data/pdf/AGL0000/AGL0000C59.pdf; ComponentLink2Description: Datasheet; Octopart: https://octopart.com/etqp3m2r2yfp-panasonic-65686337; Device Class L1: Passive Components; Digikey Description: FIXED IND 2.2UH 5.8A 24.8 MOHM; RoHS: TRUE; Package: PCC-M0530M
footprint FP-PCC-M0530M-MFG
pins: 1, 2

## CMP-05618-000102-1
designator SW?, comment EVQ-P7D01K
SWITCH TACTILE SPST-NO 0.05A 12V; Manufacturer: Panasonic; Max Current Rating: 50mA; Throw Configuration: SPST; Switch Function: Off-Mom; Contact Resistance: 500mR; Operating Force: 2.2N; Illumination Type: Non-Illuminated; Electrical Life: 100000Cycles; Actuator Color: Black; Actuator Length: 0.65mm; Switch Travel: 0.2mm; Min Operating Temperature: -20°C; Packaging: Tape and Reel; Orientation: Right Angle; Contact Current Rating: 50mA; Radiation Hardening: No; Length: 4.3mm; Current Rating: 50mA; Max Operating Temperature: 70°C; Mount: Surface Mount; Voltage Rating (DC): 12V; Max Voltage Rating (DC): 12V; Size: 2.9mm; Termination: J-Bend; Depth: 3.55mm; Series: EVQP7; Mechanical Life: 100000Cycles; Lead Free: Lead Free; REACH SVHC: No SVHC; Package Quantity: 1; Manufacturer Part Number: EVQ-P7D01K
footprint FP-EVQ-P7D01K-MFG
pins: 1, 1', 2, 2'

## Header 6
designator J?
Header, 6-Pin; LatestRevisionDate: 17-Jul-2002; LatestRevisionNote: Re-released for DXP Platform.; Publisher: Altium Limited
footprint HDR1X6 (Connector; Header; 6 Position)
signal-integrity model Connector
footprint PH2.0-WS-6P (长：16mm，宽：7.6mm，高：5.5mm)
footprint PH2.0-WI-6P (长：13.9mm，宽：6mm，高：4.7mm)
footprint GH-1.25-WS-6P (1.25mm SMT Male Horizontal Shrouded Header, 6p)
pins: 1, 2, 3, 4, 5, 6

## Header 20X2
designator P?
Header, 20-Pin, Dual row; LatestRevisionDate: 17-Jul-2002; LatestRevisionNote: Re-released for DXP Platform.; Publisher: Altium Limited
footprint FCI-B2B-0.8mm-40p
signal-integrity model Connector
footprint FCI-B2B-0.8mm-40p-MALE
footprint FCI-B2B-0.8mm-40p-FEMALE
pins: 1, 2, 3, 4, 5, 6, 7, 8, 9, 10, 11, 12, 13, 14, 15, 16, 17, 18, 19, 20, 21, 22, 23, 24, 25, 26, 27, 28, 29, 30, 31, 32, 33, 34, 35, 36, 37, 38, 39, 40

## LED-RG-KAAK-4
designator D?, comment Bi-Color LED
LED Indicator, Red / Green, 2 V, -40 to 100 degC, 4-Pin SMD, RoHS, Tape and Reel; Manufacturer: Dialight; Forward Voltage: 2.6V; Rad Hardened: No; Reverse Voltage: 5V; Product Length (mm): 4.3mm; Dominant Wave Length: 570/628nm; Forward Current: 30mA; Lens Type: NonDiffused; Shape Type: Circular; Product Depth (mm): 8.8mm; Number of  Elements: 2; Power Dissipation: 100W; Luminous Intensity: 8/6.5mcd; Main Category: ChipLED; DELETED: Compliant; Test Current (It): 20mA; Emitting Color: YellowGreen/Red; Viewing Angle: 40deg; Product Height (mm): 5mm; Pin Count: 2; Operating Temp Range: -55Cto100C; Package Type: SMD; Type: Bi-Color; High Brightness: No; Packaging: TapeandReel; Package Description: 4-Pin Surface Mount Device, Body 4.32 x 8.77 mm, Pitch 1.5 mm; Operating Temperature Classification: Industrial; Lens Dimensions: 2.8x2.8x2.7mm; Mounting Technology: SurfaceMount; Datasheet Version: Rev. B, 10/2010; Lum Intensity: 8/6.5mcd; Package Reference: 591-3001-013F; Mounting: SurfaceMount; Manufacturer URL: http://www.dialight.com/; Datasheet URL: https://datasheet.ciiva.com/2132/c17245-2132277.pdf
footprint LED_Bi_Color_1204
pins: 1 Green-C, 2 Green-A, 3 Red-C, 4 Red-A

## SLAB-CP2102N-QFN-24
designator U?, comment CP2102N-A01-GQFN24
USBXpress(TM) Family, 4 GPIOs, 2.2 to 3.6 V, -40 to 85 degC, 24-Pin QFN, RoHS; Manufacturer: Silicon Labs; Max Supply Voltage: 3.6V; Min Supply Voltage: 3V; Datasheet Version: Rev. 1.1, 08/2016; Max Operating Temperature: 85degC; Case\/Package: QFN; Number of Pins: 24; Min Operating Temperature: -40degC; Mounting Technology: SurfaceMount; Manufacturer URL: http://www.silabs.com/; RoHSCompliant: False; Package Reference: QFN-24-2550x2550TP_A; Datasheet URL: http://www.silabs.com/documents/public/data-sheets/cp2102n-datasheet.pdf; Package Description: 24-Pin Quad Flat No-lead Package, Body 4 x 4 mm, Pitch 0.5 mm; REACH SVHC: Unknown
footprint SLAB-QFN-24-2550x2550TP_A_V (QFN, 6-Leads, Body 4x4mm, Pitch 0.5mm, Thermal Pad 2.55x2.55mm)
pins: 1 ~{RI}/CLK (io), 2 GND (power) "Ground", 3 D+ (io) "USB Data Positive", 4 D- (io) "USB Data Negative", 5 VIO (power) "I/O Supply Power Input", 6 VDD (power) "Supply Power Input / 5V Regulator Output", 7 VREGIN (power) "5V Regulator Input", 8 VBUS (power) "Digital Input. VBUS Sense Input. This pin should be connected to the VBUS signal of a USB network. A 5 V signal on this pin indicates a USB network connection.", 9 ~{RST} (in) "Active-low Reset", 10 NC "No Connect (leave this pin floating).", 11 GPIO.3/WAKEUP (io) "Digital Output. This pin is driven low when the device enters the USB suspend state.", 12 GPIO.2/RS485 (io) "Ground", 13 GPIO.1/RXT (io) "Digital Input. Remote USB wakeup interrupt input.", 14 GPIO.0/TXT (io) "Digital Output. This pin is driven high when the device enters the USB suspend state", 15 ~{SUSPEND} (out) "Digital Output. This pin is driven low when the device enters the USB suspend state.", 16 NC "No Connect (leave this pin floating).", 17 SUSPEND (out) "Digital Output. This pin is driven high when the device enters the USB suspend state.", 18 ~{CTS} (in) "Digital Input. Clear To Send control input (active low).", 19 ~{RTS} (out) "Digital Output. Ready To Send control output (active low).", 20 RXD (in) "Digital Input. Asynchronous data input (UART Receive).", 21 TXD (out) "Digital Output. Asynchronous data output (UART Transmit).", 22 ~{DSR} (in) "Digital Input. Data Set Ready control input (active low).", 23 ~{DTR} (out) "Digital Output. Data Terminal Ready control output (active low).", 24 ~{DCD} (in) "Digital Input. Data Carrier Detect control input (active low).", 25 EP (power) "Ground"

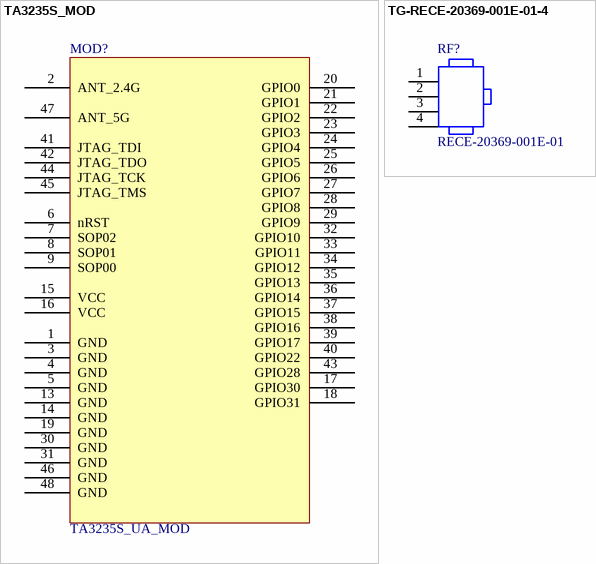
[diagram p1: symbols TA3235S_MOD to TG-RECE-20369-001E-01-4]

## TA3235S_MOD
designator MOD?, comment TA3235S_UA_MOD
TA3235S Dual Band Wifi MOD
footprint TA_3235S_UA_MOD
pins: 1 GND, 2 ANT_2.4G, 3 GND, 4 GND, 5 GND, 6 nRST, 7 SOP02, 8 SOP01, 9 SOP00, 13 GND, 14 GND, 15 VCC, 16 VCC, 17 GPIO30, 18 GPIO31, 19 GND, 20 GPIO0, 21 GPIO1, 22 GPIO2, 23 GPIO3, 24 GPIO4, 25 GPIO5, 26 GPIO6, 27 GPIO7, 28 GPIO8, 29 GPIO9, 30 GND, 31 GND, 32 GPIO10, 33 GPIO11, 34 GPIO12, 35 GPIO13, 36 GPIO14, 37 GPIO15, 38 GPIO16, 39 GPIO17, 40 GPIO22, 41 JTAG_TDI, 42 JTAG_TDO, 43 GPIO28, 44 JTAG_TCK, 45 JTAG_TMS, 46 GND, 47 ANT_5G, 48 GND

## TG-RECE-20369-001E-01-4
designator RF?, comment RECE-20369-001E-01
RF Connector, Onboard Receptacle, IPEX MHFIII; Manufacturer: Taoglas; Packing: Tape and Reel; Mounting Technology: Surface Mount; PackageReference: RECE-20369-001E-01-4; Housing Color: Gold; ComponentLink2URL: http://www.taoglas.com/images/product_images/original_images/RECE.20369.001E.01.pdf; ComponentLink3Description: Package Specification; PackageDescription: 4-Pin, Hand Drawn, Body 1.7x1.7mm; DatasheetVersion: Rev. C; ComponentLink1Description: Manufacturer URL; ComponentLink2Description: Datasheet; ComponentLink1URL: http://www.taoglas.com/; PartNumber: RECE-20369-001E-01; ComponentLink3URL: http://www.taoglas.com/images/product_images/original_images/RECE.20369.001E.01.pdf; PackageVersion: Rev. C
footprint IPEX_MHF_I (Hand Drawn, 4-Leads, Body 1.7x1.7mm)
pins: 1, 2, 3, 4